# Altium footprint library SMW3.PcbLib: 1 footprints
Each footprint in its own frame and in the unit in brackets; x right, y up, seen from the top. Pads: shape width x height; smd on the part's side, far side on the other; paste and mask are expansions set on the pad; w line width, h text height; cw(c..) or ccw(c..) is an arc to the next point about the centre after c.
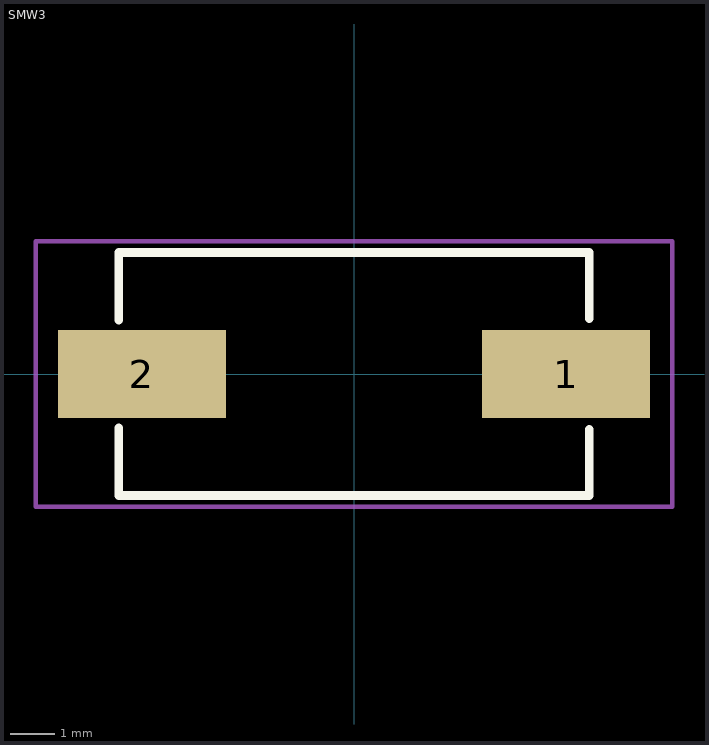
[diagram p0: the footprint, top view; thin cyan lines are the x and y axes]

## SMW3 [mm]
pads (2):
  rect 3.8x2 smd: 1(4.8,0) 2(-4.8,0)
Top Overlay:
  lines w0.2: -5.325,-1.225 -5.325,-2.75 5.325,-2.75 5.325,-1.25 ; -5.325,1.225 -5.325,2.75 5.325,2.75 5.325,1.25
Top Courtyard:
  lines w0.1: -7.2,-3 7.2,-3 7.2,3 -7.2,3 -7.2,-3
3D body "c-7-1879021-3-ba-3d.stp": height 5, standoff 0, extent -5.31,-2.75 5.31,2.75